# EAGLE library part POWERBOOST-1000C (library gba-zero-parts)
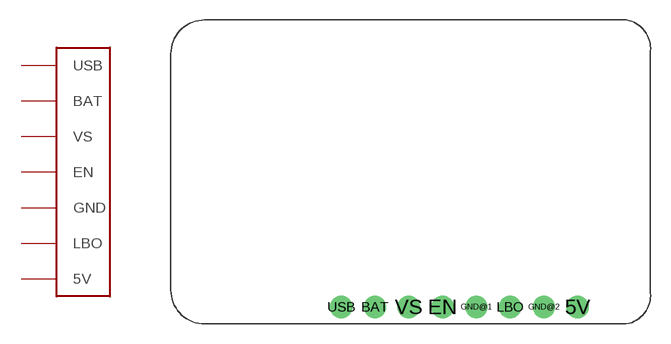
[diagram p3: symbol with the pads of POWERBOOST-1000C; footprint POWERBOOST-1000C]

Designator prefix U

## POWERBOOST-1000C  [POWERBOOST-1000C]
5V  5V
BAT  BAT
EN  EN
GND@1  GND
GND@2  GND
LBO  LBO
USB  USB
VS  VS

## Footprint POWERBOOST-1000C (pad centres in mm)
drill 1 pad 1.676: 5V 30.607,1.27; BAT 15.367,1.27; EN 20.447,1.27; GND@1 22.987,1.27; GND@2 28.067,1.27; LBO 25.527,1.27; USB 12.827,1.27; VS 17.907,1.27